# Altium schematic symbol library GenericSchematic-library.SchLib: 14 symbols
Pins are listed as number, name and electrical type; pins without a type are passive.

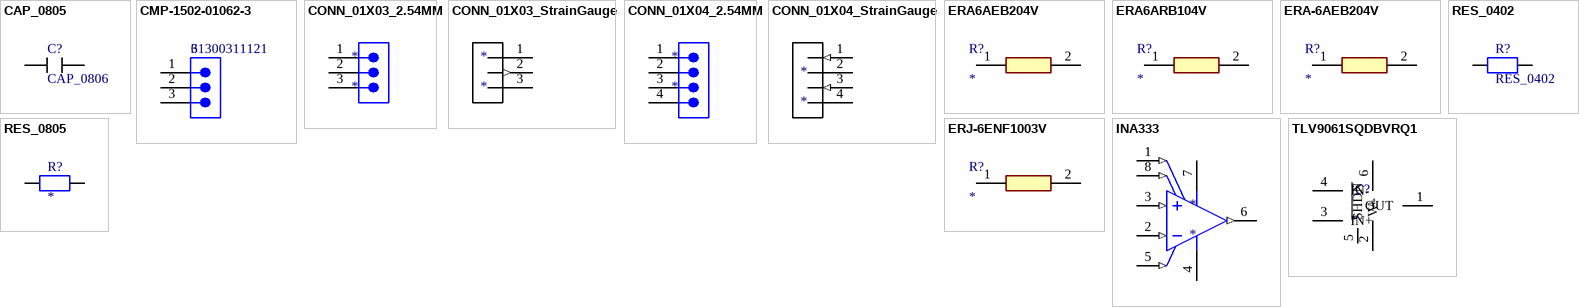
[diagram p0: symbols CAP_0805 to TLV9061SQDBVRQ1]

## CAP_0805
designator C?, comment CAP_0806
Generic 0805 component; Manufacturer: *; Manufacturer part number: *; voltage rating: *; Distributor link: *
footprint CAP_0805 (Chip Capacitor, 2-Leads, Body 2.00x1.25mm, IPC Medium Density)
pins: 1, 2

## CMP-1502-01062-3
designator 3, comment 61300311121
NexarPartId: 32855521; Current Rating: 3A; Voltage Rating: 250V; Number of Positions: 3; Pitch: 2.54mm; Contact Resistance: 20mΩ; Connector Type: Male Pin; Gender: Male; REACH SVHC: Unknown; Packaging: Bulk; Contact Material: Copper; Min Operating Temperature: -40°C; Number of Rows: 1; Orientation: Vertical; RoHS: Compliant; Contact Plating: Gold; Max Operating Temperature: 105°C; Mount: Through Hole; Height: 8.94mm; Operating Supply Voltage: 250V; Number of Pins: 3; Contact Mating Length: 5.9944mm; Number of Contacts: 3; Color: Black; Lead Free: Lead Free; Lead Pitch: 2.54mm; Termination: Solder
footprint 61300311121 (Pin Header, pitch 2.54 mm, THT, Vertical, single row, 3p)
pins: 1, 2, 3

## CONN_01X03_2.54MM
designator *
footprint 61300311121 (Pin Header, pitch 2.54 mm, THT, Vertical, single row, 3p)
pins: 1, 2, 3

## CONN_01X03_StrainGauge
designator *
pins: 1 (power), 2 (out), 3 (power)

## CONN_01X04_2.54MM
designator *
footprint HDRV4W95P0X254_1X4_1016X254X854P
pins: 1, 2, 3, 4

## CONN_01X04_StrainGauge
designator *
footprint CONN_01X04
pins: 1 (in), 2 (power), 3 (in), 4 (power)

## ERA6AEB204V
designator R?
Resistor; Manufacturer_Name: Panasonic; Manufacturer_Part_Number: ERA6AEB204V; Datasheet Link: https://industrial.panasonic.com/cdbs/www-data/pdf/RDM0000/AOA0000C307.pdf; Height: 0.6mm
footprint ERA6AEB101V
pins: 1, 2

## ERA6ARB104V
designator R?
Resistor; Manufacturer_Name: Panasonic; Manufacturer_Part_Number: ERA6ARB104V; Datasheet Link: https://industrial.panasonic.com/cdbs/www-data/pdf/RDM0000/AOA0000C307.pdf; Height: 0.6mm
footprint ERA6AEB101V
pins: 1, 2

## ERA-6AEB204V
designator R?
Resistor; Manufacturer_Name: Panasonic; Manufacturer_Part_Number: ERA-6AEB204V; Datasheet Link: https://industrial.panasonic.com/cdbs/www-data/pdf/RDM0000/AOA0000C307.pdf; Height: 0.6mm; Mouser Part Number: 667-ERA-6AEB204V; Mouser Price/Stock: https://www.mouser.co.uk/ProductDetail/Panasonic/ERA-6AEB204V?qs=nho8PGNfA6pnUIygri3Lhw%3D%3D; Arrow Part Number: ERA-6AEB204V; Arrow Price/Stock: https://www.arrow.com/en/products/era6aeb204v/panasonic
footprint ERA6AEB101V
pins: 1, 2

## ERJ-6ENF1003V
designator R?
Resistor; Manufacturer_Name: Panasonic; Manufacturer_Part_Number: ERJ-6ENF1003V; Datasheet Link: https://industrial.panasonic.com/cdbs/www-data/pdf/RDA0000/AOA0000C84.pdf; Height: 0.7mm; Mouser Part Number: 667-ERJ-6ENF1003V; Mouser Price/Stock: https://www.mouser.co.uk/ProductDetail/Panasonic/ERJ-6ENF1003V?qs=4WZYzuGhm5rTmDUb%2F%252BEA6A%3D%3D; Arrow Part Number: ERJ-6ENF1003V; Arrow Price/Stock: https://www.arrow.com/en/products/erj-6enf1003v/panasonic?region=europe
footprint ERJ6ENF1000V
pins: 1, 2

## INA333
designator *
pins: 1 RG (in), 2 VIN- (in), 3 VIN+ (in), 4 V- (power), 5 REF (in), 6 VOUT (out), 7 V+ (power), 8 RG (in)

## RES_0402
designator R?
Resistor SMD 0402 Generic; Manufacturer: *; Manufacturer part number: *; Distributor link: *
footprint RES_0402 (Chip Resistor, 2-Leads, Body 1.00x0.50mm, IPC Medium Density)
pins: 1, 2

## RES_0805
designator R?
RES_0805; Distributor link: *; Manufacturer part number: *; Manufacturer: *
footprint RES_0805 (Chip Resistor, 2-Leads, Body 2.00x1.25mm, IPC Medium Density)
pins: 1, 2

## TLV9061SQDBVRQ1
designator IC?
Integrated Circuit; Manufacturer_Name: Texas Instruments; Manufacturer_Part_Number: TLV9061SQDBVRQ1; Datasheet Link: https://www.ti.com/lit/gpn/tlv9061-q1; Height: 1.45mm; Mouser Part Number: 595-TLV9061SQDBVRQ1; Mouser Price/Stock: https://www.mouser.co.uk/ProductDetail/Texas-Instruments/TLV9061SQDBVRQ1?qs=DRkmTr78QASJ%252B5bCrdR4jA%3D%3D; Arrow Part Number: TLV9061SQDBVRQ1; Arrow Price/Stock: null?region=nac; Distributor link: https://www.mouser.ca/ProductDetail/Texas-Instruments/TLV9061SQDBVRQ1?qs=DRkmTr78QASJ%252B5bCrdR4jA%3D%3D&utm_id=22382706958&utm_source=google&utm_medium=cpc&utm_marketing_tactic=amercorp&gad_source=1&gad_campaignid=22379162534&gbraid=0AAAAADn_wf1ZVfSKs2W2HXnjDFfNagrDh&gclid=Cj0KCQjwucDBBhDxARIsANqFdr2iq-nZVszOerZcfxjgJY5fotf63cz0b-vATjnFXSYncIhHlkYrdIwaAgcyEALw_wcB
footprint SOT95P280X145-6N
pins: 1 OUT, 2 V-, 3 IN+, 4 IN-, 5 ~{SHDN}, 6 V+